# Altium footprint library BasicosyConectores.PcbLib: 34 footprints (part 1 of 3)
Each footprint in its own frame and in the unit in brackets; x right, y up, seen from the top. Pads: shape width x height; smd on the part's side, far side on the other; paste and mask are expansions set on the pad; w line width, h text height; cw(c..) or ccw(c..) is an arc to the next point about the centre after c.
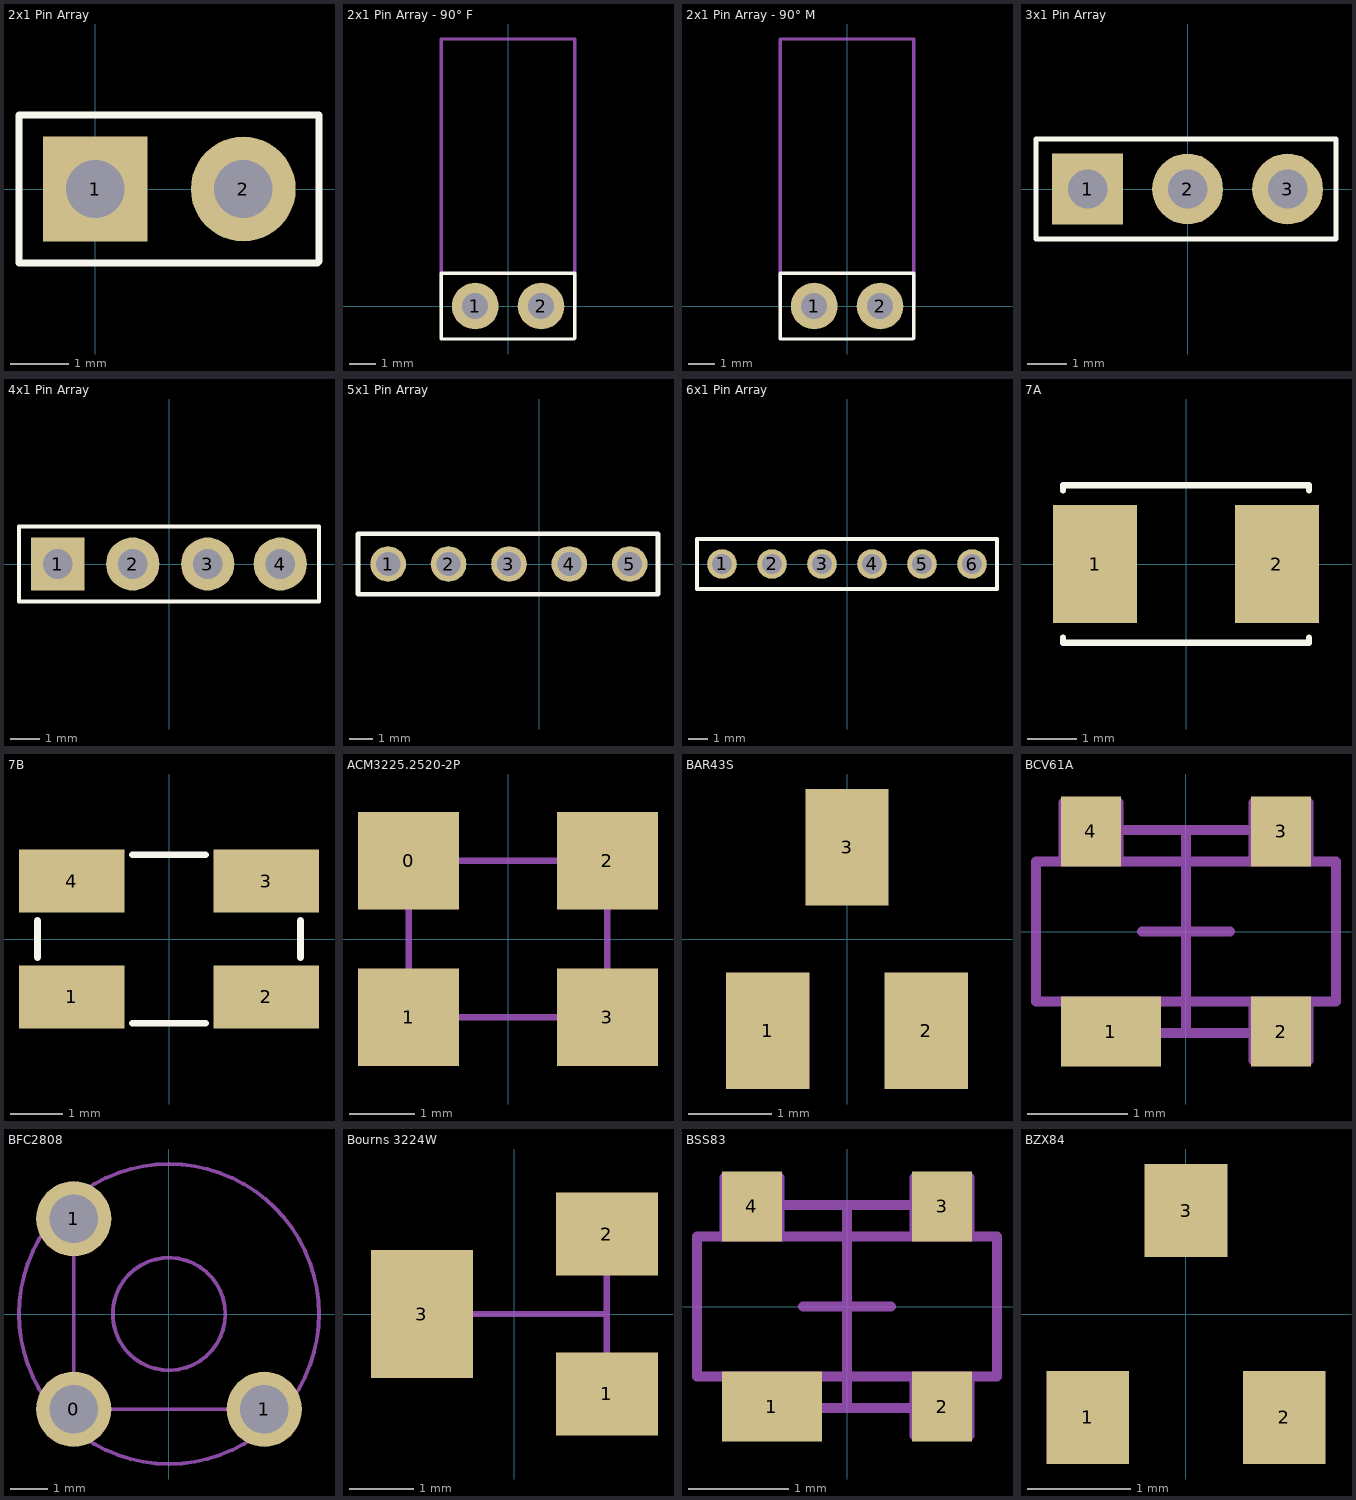
[diagram p0: the footprints below, top view; thin cyan lines are the x and y axes]

## 2x1 Pin Array [mm]
pads (2):
  rect 1.8x1.8 hole 1: 1(0,0)
  round 1.8 hole 1: 2(2.54,0)
Top Overlay:
  lines w0.127: 3.81,-1.27 3.74,-1.27 -1.31,-1.27 -1.31,1.27 3.84,1.27 3.84,-1.24

## 2x1 Pin Array - 90° F [mm] "2x1 Pin Array - Right Angle Female"
pads (2):
  round 1.8 hole 1: 1(-1.27,0) 2(1.27,0)
Top Overlay:
  lines w0.127: 2.54,-1.27 2.47,-1.27 -2.58,-1.27 -2.58,1.27 2.57,1.27 2.57,-1.24
Mechanical 3:
  lines w0.127: -2.58,0 -2.58,10.3 2.57,10.3 2.57,0

## 2x1 Pin Array - 90° M [mm] "2x1 Pin Array - Right Angle Male"
pads (2):
  round 1.8 hole 1: 1(-1.27,0) 2(1.27,0)
Top Overlay:
  lines w0.127: 2.54,-1.27 2.47,-1.27 -2.58,-1.27 -2.58,1.27 2.57,1.27 2.57,-1.24
Mechanical 3:
  lines w0.127: -2.58,0 -2.58,10.3 2.57,10.3 2.57,0

## 3x1 Pin Array [mm]
pads (3):
  rect 1.8x1.8 hole 1: 1(-2.54,0)
  round 1.8 hole 1: 2(0,0) 3(2.54,0)
Top Overlay:
  lines w0.127: -3.85,-1.27 -3.85,1.27 3.77,1.27 3.77,-1.27 -3.85,-1.27

## 4x1 Pin Array [mm]
pads (4):
  rect 1.8x1.8 hole 1: 1(-3.77,0)
  round 1.8 hole 1: 2(-1.23,0) 3(1.31,0) 4(3.77,0)
Top Overlay:
  lines w0.127: -5.08,-1.27 5.08,-1.27 5.08,1.27 2.54,1.27 -5.08,1.27 -5.08,-1.27

## 5x1 Pin Array [mm] "Tira de pines"
pads (5):
  round 1.5 hole 1.016: 1(-6.35,0) 2(-3.81,0) 3(-1.27,0) 4(1.27,0) 5(3.81,0)
Top Overlay:
  lines w0.2: -7.62,-1.27 -7.62,1.27 5,1.27 5,-1.27 -7.62,-1.27

## 6x1 Pin Array [mm] "Tira de pines"
pads (6):
  round 1.5 hole 1.016: 1(-6.35,0) 2(-3.81,0) 3(-1.27,0) 4(1.27,0) 5(3.81,0) 6(6.35,0)
Top Overlay:
  lines w0.2: -7.62,-1.27 -7.62,1.27 7.62,1.27 7.62,-1.27 -7.62,-1.27

## 7A [mm] "Crystal SMD"
pads (2):
  rect 1.7x2.4 smd: 1(-1.85,0) 2(1.85,0)
Top Overlay:
  lines w0.127: -2.5,-1.5 -2.5,-1.6 2.5,-1.6 2.5,-1.5 ; -2.5,1.5 -2.5,1.6 2.5,1.6 2.5,1.5

## 7B [mm] "Crystal SMD"
pads (4):
  rect 2x1.2 smd: 1(-1.85,-1.1) 2(1.85,-1.1) 3(1.85,1.1) 4(-1.85,1.1)
Top Overlay:
  lines w0.127: -2.5,-0.35 -2.5,0.35 ; -0.7,-1.6 0.7,-1.6 ; -0.7,1.6 0.7,1.6 ; 2.5,-0.35 2.5,0.35

## ACM3225.2520-2P [mm]
pads (4):
  rect 1.55x1.5 smd: 0(-1.525,1.2) 1(-1.525,-1.2) 2(1.525,1.2) 3(1.525,-1.2)
Mechanical 1:
  lines w0.1: -1.525,-1.2 1.525,-1.2 1.525,1.2 -1.525,1.2 -1.525,-1.2
3D body: height 2.3, standoff 0, extent -1.6,-1.25 1.6,1.25

## BAR43S [mm]
pads (3):
  rect 1x1.4 smd: 1(-0.95,-1.1) 2(0.95,-1.1) 3(0,1.1)
3D body: height 1.05, standoff -0.05, extent -1.476,-1.25 1.524,1.25

## BCV61A [mm]
pads (4):
  rect 1x0.7 smd: 1(-0.75,-1)
  rect 0.6x0.7 smd: 2(0.95,-1) 3(0.95,1) 4(-0.95,1)
Mechanical 1:
  lines w0.1: -1.225,1.016 -0.675,1.016 ; -1.19,-0.741 -1.19,-1.291 -0.31,-1.291 -0.31,-0.741 ; -0.95,1.016 0.95,1.016 ; -0.75,-1.016 0,-1.016 ; -0.44,0 0.44,0 ; 0,1.016 0,0 0,-1.016 ; 0.675,-1.291 0.675,-0.741 ; 0.675,1.016 1.225,1.016 ; 0.675,-1.291 1.225,-1.291 1.225,-0.741 ; 0.95,-1.016 0,-1.016 ; -1.5,-0.7 1.5,-0.7 1.5,0.7 -1.5,0.7 -1.5,-0.7 ; -1.225,0.741 -0.675,0.741 -0.675,1.291 -1.225,1.291 -1.225,0.741 ; 0.675,0.741 1.225,0.741 1.225,1.291 0.675,1.291 0.675,0.741
3D body: height 1.1, standoff -0.05, extent -1.5,-1.25 1.5,1.25

## BFC2808 [mm]
pads (3):
  round 2 hole 1.3: 0(-2.54,-2.54) 1(-2.54,2.54) 1(2.54,-2.54)
Mechanical 1:
  circle w0.1: c0,0 r1.5
  circle w0.1: c0,0 r4
  lines w0.1: -2.54,2.54 -2.54,-2.54 2.54,-2.54

## Bourns 3224W [mm]
pads (3):
  rect 1.6x1.3 smd: 1(1.45,-1.25) 2(1.45,1.25)
  rect 1.6x2 smd: 3(-1.45,0)
Mechanical 1:
  lines w0.1: -1.45,0 1.45,0 ; 1.45,-1.25 1.45,1.25
Mechanical 3:
  text "String" at 0,2.75 h1.52
  text "String" at 0,2.75 h1.52
3D body: height 5.29, standoff 0, extent -1.969,-2.413 1.969,2.413

## BSS83 [mm]
pads (4):
  rect 1x0.7 smd: 1(-0.75,-1)
  rect 0.6x0.7 smd: 2(0.95,-1) 3(0.95,1) 4(-0.95,1)
Mechanical 1:
  lines w0.1: -1.225,1.016 -0.675,1.016 ; -1.19,-0.741 -1.19,-1.291 -0.31,-1.291 -0.31,-0.741 ; -0.95,1.016 0.95,1.016 ; -0.75,-1.016 0,-1.016 ; -0.44,0 0.44,0 ; 0,1.016 0,0 0,-1.016 ; 0.675,-0.741 0.675,-1.291 1.225,-1.291 1.225,-0.741 ; 0.675,1.016 1.225,1.016 ; 0.95,-1.016 0,-1.016 ; -1.5,-0.7 1.5,-0.7 1.5,0.7 -1.5,0.7 -1.5,-0.7 ; -1.225,0.741 -0.675,0.741 -0.675,1.291 -1.225,1.291 -1.225,0.741 ; 0.675,0.741 1.225,0.741 1.225,1.291 0.675,1.291 0.675,0.741
3D body: height 1.1, standoff -0.05, extent -1.5,-1.25 1.5,1.25

## BZX84 [mm]
pads (3):
  rect 0.8x0.9 smd: 1(-0.95,-1) 2(0.95,-1) 3(0,1)
3D body: height 1.05, standoff -0.05, extent -1.476,-1.25 1.524,1.25